# Altium footprint library WE-MAIA.PcbLib: 20 footprints (part 2 of 2)
Each footprint in its own frame and in the unit in brackets; x right, y up, seen from the top. Pads: shape width x height; smd on the part's side, far side on the other; paste and mask are expansions set on the pad; w line width, h text height; cw(c..) or ccw(c..) is an arc to the next point about the centre after c.
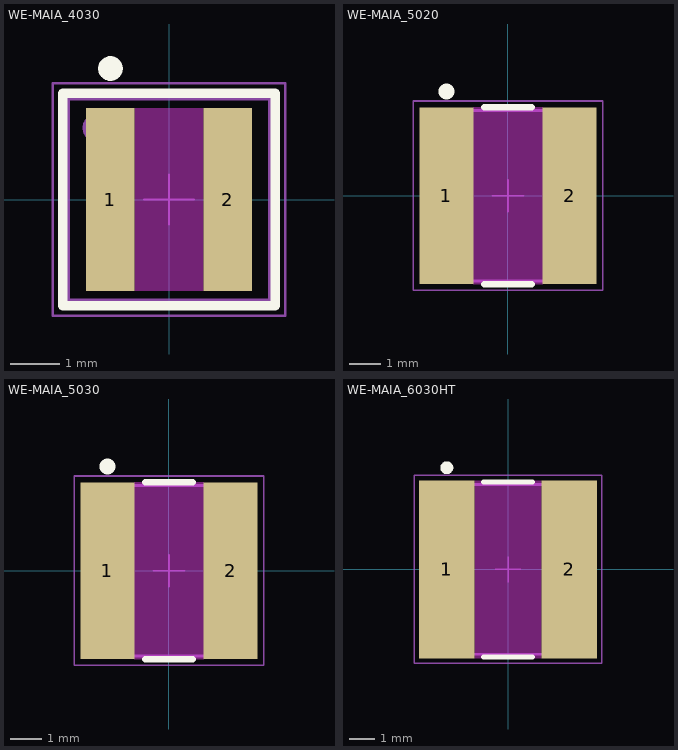
[diagram p1: the footprints below, top view; thin cyan lines are the x and y axes]

## WE-MAIA_4030 [mm] "SMD Power Inductor, 2-leads, body 4.1x4.1mm"
height 3.1
pads (2):
  rect 0.98x3.7 smd: 1(-1.185,0) 2(1.185,0)
Top Layer keep-out:
  region: -0.695,1.85 0.695,1.85 0.695,-1.85 -0.695,-1.85
Top Overlay:
  circle w0.25: c-1.185,2.65 r0.125
  lines w0.2: -2.15,-2.15 2.15,-2.15 2.15,2.15 -2.15,2.15 -2.15,-2.15
Top Component Outline:
  circle w0.1: c-1.45,1.45 r0.25
  lines w0.1: -2.05,-2.05 2.05,-2.05 2.05,2.05 -2.05,2.05 -2.05,-2.05
Top Courtyard:
  lines w0.05: -2.35,-2.35 2.35,-2.35 2.35,2.35 -2.35,2.35 -2.35,-2.35
Top Component Center:
  lines w0.05: -0.5,0 0.5,0 ; 0,-0.5 0,0.5
Top Designator (Mech19):
  text ".Designator" at -4.998,-0.333 h1
3D body "IndMAIA_4030.stp": height 3.1, standoff 0, extent -2.05,-2.05 2.05,2.05

## WE-MAIA_5020 [mm] "SMT Power Inductor, 2-leads, body 5.4x5.4mm"
height 2.1
pads (2):
  rect 1.7x5.6 smd: 1(-1.95,0) 2(1.95,0)
Top Layer keep-out:
  region: -1.1,2.8 1.1,2.8 1.1,-2.8 -1.1,-2.8
Top Overlay:
  circle w0.25: c-1.95,3.3 r0.125
  lines w0.2: -0.75,-2.8 0.75,-2.8 ; -0.75,2.8 0.75,2.8
Top Component Outline:
  circle w0.1: c-1.9,1.9 r0.3
  lines w0.1: -2.7,-2.7 2.7,-2.7 2.7,2.7 -2.7,2.7 -2.7,-2.7
Top Courtyard:
  lines w0.05: -3,-3 3,-3 3,3 -3,3 -3,-3
Top Component Center:
  lines w0.05: -0.5,0 0.5,0 ; 0,-0.5 0,0.5
Top Designator (Mech19):
  text ".Designator" at -5.998,-0.4 h1.2
3D body "IndMAIA_5020.stp": height 2.1, standoff 0, extent -2.7,-2.7 2.7,2.7

## WE-MAIA_5030 [mm] "SMT Power Inductor, 2-leads, body 5.4x5.4mm"
height 3.1
pads (2):
  rect 1.7x5.6 smd: 1(-1.95,0) 2(1.95,0)
Top Layer keep-out:
  region: -1.1,2.8 1.1,2.8 1.1,-2.8 -1.1,-2.8
Top Overlay:
  circle w0.25: c-1.95,3.3 r0.125
  lines w0.2: -0.75,-2.8 0.75,-2.8 ; -0.75,2.8 0.75,2.8
Top Component Outline:
  circle w0.1: c-1.9,1.9 r0.3
  lines w0.1: -2.7,-2.7 -2.7,2.7 2.7,2.7 2.7,-2.7 -2.7,-2.7
Top Courtyard:
  lines w0.05: -3,-3 -3,3 3,3 3,-3 -3,-3
Top Component Center:
  lines w0.05: -0.5,0 0.5,0 ; 0,-0.5 0,0.5
Top Designator (Mech19):
  text ".Designator" at -5.998,-0.4 h1.2
3D body "78438367xxx_5030.stp": height 3.1, standoff 0, extent -2.7,-2.7 2.7,2.7

## WE-MAIA_6030HT [mm] "SMT Power Inductor, 2-leads, body 6.60 x 6.60 mm"
height 3.1
pads (2):
  rect 2.15x6.9 smd: 1(-2.375,0) 2(2.375,0)
Top Layer keep-out:
  region: -1.3,3.45 1.3,3.45 1.3,-3.45 -1.3,-3.45
Top Overlay:
  circle w0.25: c-2.375,3.95 r0.125
  lines w0.2: -0.95,-3.4 0.95,-3.4 ; -0.95,3.4 0.95,3.4
Top Component Outline:
  circle w0.1: c-2.5,2.5 r0.3
  lines w0.1: -3.3,-3.3 -3.3,3.3 3.3,3.3 3.3,-3.3 -3.3,-3.3
Top Courtyard:
  lines w0.05: -3.65,-3.65 -3.65,3.65 3.65,3.65 3.65,-3.65 -3.65,-3.65
Top Component Center:
  lines w0.05: -0.5,0 0.5,0 ; 0,-0.5 0,0.5
Top Designator (Mech19):
  text ".Designator" at -5.998,-0.4 h1.2
3D body "IndMAIA_6030HT.stp": height 3.1, standoff 0, extent -3.3,-3.3 3.3,3.3